# EAGLE library part 74VHC4053AFT (library custom)
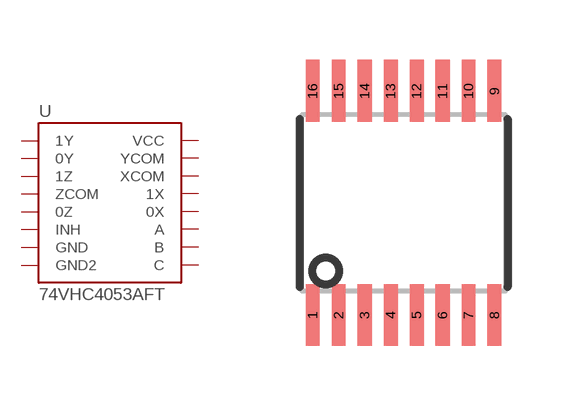
[diagram p149: symbol with the pads of 16-SSOP; footprint 16-SSOP]

Designator prefix U

## 74VHC4053AFT  [16-SSOP]
1  1Y
2  0Y
3  1Z
4  ZCOM
5  0Z
6  INH
7  GND
8  GND2
9  C
10  B
11  A
12  0X
13  1X
14  XCOM
15  YCOM
16  VCC

## Footprint 16-SSOP (pad centres in mm)
smd 0.35 x 1.55: 1 -2.275,-2.8; 2 -1.625,-2.8; 3 -0.975,-2.8; 4 -0.325,-2.8; 5 0.325,-2.8; 6 0.975,-2.8; 7 1.625,-2.8; 8 2.275,-2.8; 9 2.275,2.8; 10 1.625,2.8; 11 0.975,2.8; 12 0.325,2.8; 13 -0.325,2.8; 14 -0.975,2.8; 15 -1.625,2.8; 16 -2.275,2.8